# Altium integrated library WE-MAPI.intlib: 85 symbols
Pins are listed as number, name and electrical type; pins without a type are passive.

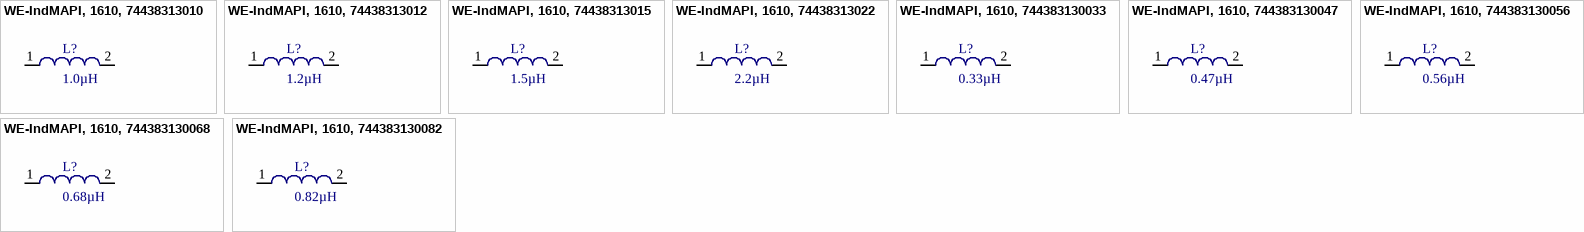
[diagram p0: symbols WE-IndMAPI, 1610, 74438313010 to WE-IndMAPI, 1610, 744383130082]

## WE-IndMAPI, 1610, 74438313010
designator L?, comment 1.0µH
SMD Power Inductor WE-IndMAPI, L=1.0µH; partNo: 74438313010; Manufacturer: Würth Elektronik eiSos GmbH; Inductance: 1.0µH; ComponentLink1Description: Manufacturer; ComponentLink1URL: http://www.we-online.de; Created by: Christin Zierenner; Created Date: Oct-2014; ComponentLink2Description: Datasheet; ComponentLink2URL: http://katalog.we-online.de/kataloge/eisos/media/pdf/74438313010.pdf
footprint WE-MAPI 1610 (SMD Inductor, 2-Leads, Body 1.6x 1.6mm,IPC Medium Density)
pins: 1, 2

## WE-IndMAPI, 1610, 74438313012
designator L?, comment 1.2µH
SMD Power Inductor WE-IndMAPI, L=1.2µH; partNo: 74438313012; Manufacturer: Würth Elektronik eiSos GmbH; Inductance: 1.2µH; ComponentLink1Description: Manufacturer; ComponentLink1URL: http://www.we-online.de; Created by: Christin Zierenner; Created Date: Oct-2014; ComponentLink2Description: Datasheet; ComponentLink2URL: http://katalog.we-online.de/kataloge/eisos/media/pdf/74438313012.pdf
footprint WE-MAPI 1610 (SMD Inductor, 2-Leads, Body 1.6x 1.6mm,IPC Medium Density)
pins: 1, 2

## WE-IndMAPI, 1610, 74438313015
designator L?, comment 1.5µH
SMD Power Inductor WE-IndMAPI, L=1.5µH; partNo: 74438313015; Manufacturer: Würth Elektronik eiSos GmbH; Inductance: 1.5µH; ComponentLink1Description: Manufacturer; ComponentLink1URL: http://www.we-online.de; Created by: Christin Zierenner; Created Date: Oct-2014; ComponentLink2Description: Datasheet; ComponentLink2URL: http://katalog.we-online.de/kataloge/eisos/media/pdf/74438313015.pdf
footprint WE-MAPI 1610 (SMD Inductor, 2-Leads, Body 1.6x 1.6mm,IPC Medium Density)
pins: 1, 2

## WE-IndMAPI, 1610, 74438313022
designator L?, comment 2.2µH
SMD Power Inductor WE-IndMAPI, L=2.2µH; partNo: 74438313022; Manufacturer: Würth Elektronik eiSos GmbH; Inductance: 2.2µH; ComponentLink1Description: Manufacturer; ComponentLink1URL: http://www.we-online.de; Created by: Christin Zierenner; Created Date: Oct-2014; ComponentLink2Description: Datasheet; ComponentLink2URL: http://katalog.we-online.de/kataloge/eisos/media/pdf/74438313022.pdf
footprint WE-MAPI 1610 (SMD Inductor, 2-Leads, Body 1.6x 1.6mm,IPC Medium Density)
pins: 1, 2

## WE-IndMAPI, 1610, 744383130033
designator L?, comment 0.33µH
SMD Power Inductor WE-IndMAPI, L=0.33µH; partNo: 744383130033; Manufacturer: Würth Elektronik eiSos GmbH; Inductance: 0.33µH; ComponentLink1Description: Manufacturer; ComponentLink1URL: http://www.we-online.de; Created by: Christin Zierenner; Created Date: Oct-2014; ComponentLink2Description: Datasheet; ComponentLink2URL: http://katalog.we-online.de/kataloge/eisos/media/pdf/744383130033.pdf
footprint WE-MAPI 1610 (SMD Inductor, 2-Leads, Body 1.6x 1.6mm,IPC Medium Density)
pins: 1, 2

## WE-IndMAPI, 1610, 744383130047
designator L?, comment 0.47µH
SMD Power Inductor WE-IndMAPI, L=0.47µH; partNo: 744383130047; Manufacturer: Würth Elektronik eiSos GmbH; Inductance: 0.47µH; ComponentLink1Description: Manufacturer; ComponentLink1URL: http://www.we-online.de; Created by: Christin Zierenner; Created Date: Oct-2014; ComponentLink2Description: Datasheet; ComponentLink2URL: http://katalog.we-online.de/kataloge/eisos/media/pdf/744383130047.pdf
footprint WE-MAPI 1610 (SMD Inductor, 2-Leads, Body 1.6x 1.6mm,IPC Medium Density)
pins: 1, 2

## WE-IndMAPI, 1610, 744383130056
designator L?, comment 0.56µH
SMD Power Inductor WE-IndMAPI, L=0.56µH; partNo: 744383130056; Manufacturer: Würth Elektronik eiSos GmbH; Inductance: 0.56µH; ComponentLink1Description: Manufacturer; ComponentLink1URL: http://www.we-online.de; Created by: Christin Zierenner; Created Date: Oct-2014; ComponentLink2Description: Datasheet; ComponentLink2URL: http://katalog.we-online.de/kataloge/eisos/media/pdf/744383130056.pdf
footprint WE-MAPI 1610 (SMD Inductor, 2-Leads, Body 1.6x 1.6mm,IPC Medium Density)
pins: 1, 2

## WE-IndMAPI, 1610, 744383130068
designator L?, comment 0.68µH
SMD Power Inductor WE-IndMAPI, L=0.68µH; partNo: 744383130068; Manufacturer: Würth Elektronik eiSos GmbH; Inductance: 0.68µH; ComponentLink1Description: Manufacturer; ComponentLink1URL: http://www.we-online.de; Created by: Christin Zierenner; Created Date: Oct-2014; ComponentLink2Description: Datasheet; ComponentLink2URL: http://katalog.we-online.de/kataloge/eisos/media/pdf/744383130068.pdf
footprint WE-MAPI 1610 (SMD Inductor, 2-Leads, Body 1.6x 1.6mm,IPC Medium Density)
pins: 1, 2

## WE-IndMAPI, 1610, 744383130082
designator L?, comment 0.82µH
SMD Power Inductor WE-IndMAPI, L=0.82µH; partNo: 744383130082; Manufacturer: Würth Elektronik eiSos GmbH; Inductance: 0.82µH; ComponentLink1Description: Manufacturer; ComponentLink1URL: http://www.we-online.de; Created by: Christin Zierenner; Created Date: Oct-2014; ComponentLink2Description: Datasheet; ComponentLink2URL: http://katalog.we-online.de/kataloge/eisos/media/pdf/744383130082.pdf
footprint WE-MAPI 1610 (SMD Inductor, 2-Leads, Body 1.6x 1.6mm,IPC Medium Density)
pins: 1, 2


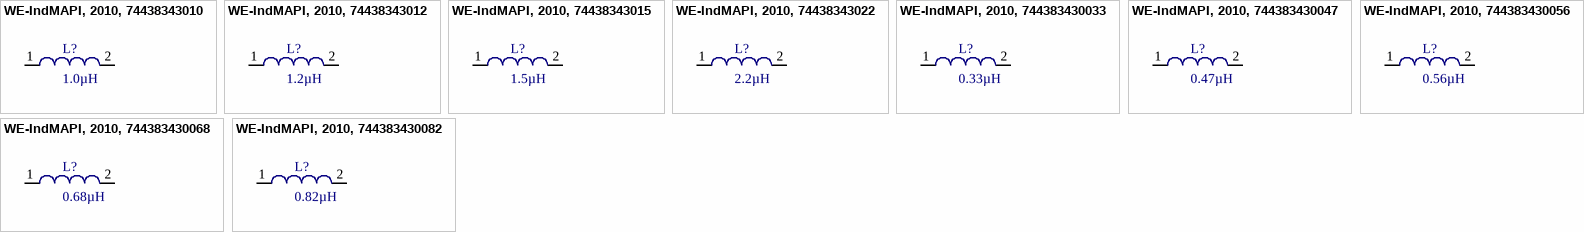
[diagram p1: symbols WE-IndMAPI, 2010, 74438343010 to WE-IndMAPI, 2010, 744383430082]

## WE-IndMAPI, 2010, 74438343010
designator L?, comment 1.0µH
SMD Power Inductor WE-IndMAPI, L=1.0µH; partNo: 74438343010; Manufacturer: Würth Elektronik eiSos GmbH; Inductance: 1.0µH; ComponentLink1Description: Manufacturer; ComponentLink1URL: http://www.we-online.de; Created by: Christin Zierenner; Created Date: Oct-2014; ComponentLink2Description: Datasheet; ComponentLink2URL: http://katalog.we-online.de/kataloge/eisos/media/pdf/74438343010.pdf
footprint WE-MAPI 2010 (SMD Inductor, 2-Leads, Body 2.5x 1.6mm,IPC Medium Density)
pins: 1, 2

## WE-IndMAPI, 2010, 74438343012
designator L?, comment 1.2µH
SMD Power Inductor WE-IndMAPI, L=1.2µH; partNo: 74438343012; Manufacturer: Würth Elektronik eiSos GmbH; Inductance: 1.2µH; ComponentLink1Description: Manufacturer; ComponentLink1URL: http://www.we-online.de; Created by: Christin Zierenner; Created Date: Oct-2014; ComponentLink2Description: Datasheet; ComponentLink2URL: http://katalog.we-online.de/kataloge/eisos/media/pdf/74438343012.pdf
footprint WE-MAPI 2010 (SMD Inductor, 2-Leads, Body 2.5x 1.6mm,IPC Medium Density)
pins: 1, 2

## WE-IndMAPI, 2010, 74438343015
designator L?, comment 1.5µH
SMD Power Inductor WE-IndMAPI, L=1.5µH; partNo: 74438343015; Manufacturer: Würth Elektronik eiSos GmbH; Inductance: 1.5µH; ComponentLink1Description: Manufacturer; ComponentLink1URL: http://www.we-online.de; Created by: Christin Zierenner; Created Date: Oct-2014; ComponentLink2Description: Datasheet; ComponentLink2URL: http://katalog.we-online.de/kataloge/eisos/media/pdf/74438343015.pdf
footprint WE-MAPI 2010 (SMD Inductor, 2-Leads, Body 2.5x 1.6mm,IPC Medium Density)
pins: 1, 2

## WE-IndMAPI, 2010, 74438343022
designator L?, comment 2.2µH
SMD Power Inductor WE-IndMAPI, L=2.2µH; partNo: 74438343022; Manufacturer: Würth Elektronik eiSos GmbH; Inductance: 2.2µH; ComponentLink1Description: Manufacturer; ComponentLink1URL: http://www.we-online.de; Created by: Christin Zierenner; Created Date: Oct-2014; ComponentLink2Description: Datasheet; ComponentLink2URL: http://katalog.we-online.de/kataloge/eisos/media/pdf/74438343022.pdf
footprint WE-MAPI 2010 (SMD Inductor, 2-Leads, Body 2.5x 1.6mm,IPC Medium Density)
pins: 1, 2

## WE-IndMAPI, 2010, 744383430033
designator L?, comment 0.33µH
SMD Power Inductor WE-IndMAPI, L=0.33µH; partNo: 744383430033; Manufacturer: Würth Elektronik eiSos GmbH; Inductance: 0.33µH; ComponentLink1Description: Manufacturer; ComponentLink1URL: http://www.we-online.de; Created by: Christin Zierenner; Created Date: Oct-2014; ComponentLink2Description: Datasheet; ComponentLink2URL: http://katalog.we-online.de/kataloge/eisos/media/pdf/744383430033.pdf
footprint WE-MAPI 2010 (SMD Inductor, 2-Leads, Body 2.5x 1.6mm,IPC Medium Density)
pins: 1, 2

## WE-IndMAPI, 2010, 744383430047
designator L?, comment 0.47µH
SMD Power Inductor WE-IndMAPI, L=0.47µH; partNo: 744383430047; Manufacturer: Würth Elektronik eiSos GmbH; Inductance: 0.47µH; ComponentLink1Description: Manufacturer; ComponentLink1URL: http://www.we-online.de; Created by: Christin Zierenner; Created Date: Oct-2014; ComponentLink2Description: Datasheet; ComponentLink2URL: http://katalog.we-online.de/kataloge/eisos/media/pdf/744383430047.pdf
footprint WE-MAPI 2010 (SMD Inductor, 2-Leads, Body 2.5x 1.6mm,IPC Medium Density)
pins: 1, 2

## WE-IndMAPI, 2010, 744383430056
designator L?, comment 0.56µH
SMD Power Inductor WE-IndMAPI, L=0.56µH; partNo: 744383430056; Manufacturer: Würth Elektronik eiSos GmbH; Inductance: 0.56µH; ComponentLink1Description: Manufacturer; ComponentLink1URL: http://www.we-online.de; Created by: Christin Zierenner; Created Date: Oct-2014; ComponentLink2Description: Datasheet; ComponentLink2URL: http://katalog.we-online.de/kataloge/eisos/media/pdf/744383430056.pdf
footprint WE-MAPI 2010 (SMD Inductor, 2-Leads, Body 2.5x 1.6mm,IPC Medium Density)
pins: 1, 2

## WE-IndMAPI, 2010, 744383430068
designator L?, comment 0.68µH
SMD Power Inductor WE-IndMAPI, L=0.68µH; partNo: 744383430068; Manufacturer: Würth Elektronik eiSos GmbH; Inductance: 0.68µH; ComponentLink1Description: Manufacturer; ComponentLink1URL: http://www.we-online.de; Created by: Christin Zierenner; Created Date: Oct-2014; ComponentLink2Description: Datasheet; ComponentLink2URL: http://katalog.we-online.de/kataloge/eisos/media/pdf/744383430068.pdf
footprint WE-MAPI 2010 (SMD Inductor, 2-Leads, Body 2.5x 1.6mm,IPC Medium Density)
pins: 1, 2

## WE-IndMAPI, 2010, 744383430082
designator L?, comment 0.82µH
SMD Power Inductor WE-IndMAPI, L=0.82µH; partNo: 744383430082; Manufacturer: Würth Elektronik eiSos GmbH; Inductance: 0.82µH; ComponentLink1Description: Manufacturer; ComponentLink1URL: http://www.we-online.de; Created by: Christin Zierenner; Created Date: Oct-2014; ComponentLink2Description: Datasheet; ComponentLink2URL: http://katalog.we-online.de/kataloge/eisos/media/pdf/744383430082.pdf
footprint WE-MAPI 2010 (SMD Inductor, 2-Leads, Body 2.5x 1.6mm,IPC Medium Density)
pins: 1, 2


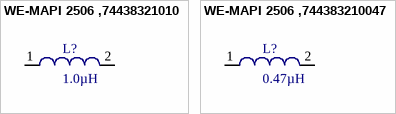
[diagram p2: symbols WE-MAPI 2506 ,74438321010 to WE-MAPI 2506 ,744383210047]

## WE-MAPI 2506 ,74438321010
designator L?, comment 1.0µH
Power Multilayer Inductor WE-MAPI, L=1.0µH; partNo: 74438321010; Manufacturer: Würth Elektronik eiSos GmbH; Inductance: 1.0µH; ComponentLink1Description: Manufacturer; ComponentLink1URL: http://www.we-online.de; Created by: Otto Christin; Created Date: Nov 2013; ComponentLink2Description: Datasheet; ComponentLink2URL: http://katalog.we-online.de/kataloge/eisos/media/pdf/74438321010.pdf
footprint WE-MAPI 2506 (Chip Inductor, 2-Leads, Body 2.5x2.0mm, IPC Medium Density)
pins: 1, 2

## WE-MAPI 2506 ,744383210047
designator L?, comment 0.47µH
Power Multilayer Inductor WE-MAPI, L=0.47µH; partNo: 744383210047; Manufacturer: Würth Elektronik eiSos GmbH; Inductance: 0.47µH; ComponentLink1Description: Manufacturer; ComponentLink1URL: http://www.we-online.de; Created by: Otto Christin; Created Date: Nov 2013; ComponentLink2Description: Datasheet; ComponentLink2URL: http://katalog.we-online.de/kataloge/eisos/media/pdf/744383210047.pdf
footprint WE-MAPI 2506 (Chip Inductor, 2-Leads, Body 2.5x2.0mm, IPC Medium Density)
pins: 1, 2


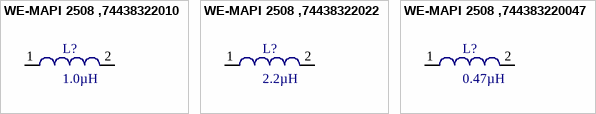
[diagram p3: symbols WE-MAPI 2508 ,74438322010 to WE-MAPI 2508 ,744383220047]

## WE-MAPI 2508 ,74438322010
designator L?, comment 1.0µH
Power Multilayer Inductor WE-MAPI, L=1.0µH; partNo: 74438322010; Manufacturer: Würth Elektronik eiSos GmbH; Inductance: 1.0µH; ComponentLink1Description: Manufacturer; ComponentLink1URL: http://www.we-online.de; Created by: Otto Christin; Created Date: Nov 2013; ComponentLink2Description: Datasheet; ComponentLink2URL: http://katalog.we-online.de/kataloge/eisos/media/pdf/74438322010.pdf
footprint WE-MAPI 2508 (Chip Inductor, 2-Leads, Body 2.5x2.0mm, IPC Medium Density)
pins: 1, 2

## WE-MAPI 2508 ,74438322022
designator L?, comment 2.2µH
Power Multilayer Inductor WE-MAPI, L=2.2µH; partNo: 74438322022; Manufacturer: Würth Elektronik eiSos GmbH; Inductance: 2.2µH; ComponentLink1Description: Manufacturer; ComponentLink1URL: http://www.we-online.de; Created by: Otto Christin; Created Date: Nov 2013; ComponentLink2Description: Datasheet; ComponentLink2URL: http://katalog.we-online.de/kataloge/eisos/media/pdf/74438322022.pdf
footprint WE-MAPI 2508 (Chip Inductor, 2-Leads, Body 2.5x2.0mm, IPC Medium Density)
pins: 1, 2

## WE-MAPI 2508 ,744383220047
designator L?, comment 0.47µH
Power Multilayer Inductor WE-MAPI, L=0.47µH; partNo: 744383220047; Manufacturer: Würth Elektronik eiSos GmbH; Inductance: 0.47µH; ComponentLink1Description: Manufacturer; ComponentLink1URL: http://www.we-online.de; Created by: Otto Christin; Created Date: Nov 2013; ComponentLink2Description: Datasheet; ComponentLink2URL: http://katalog.we-online.de/kataloge/eisos/media/pdf/744383220047.pdf
footprint WE-MAPI 2508 (Chip Inductor, 2-Leads, Body 2.5x2.0mm, IPC Medium Density)
pins: 1, 2


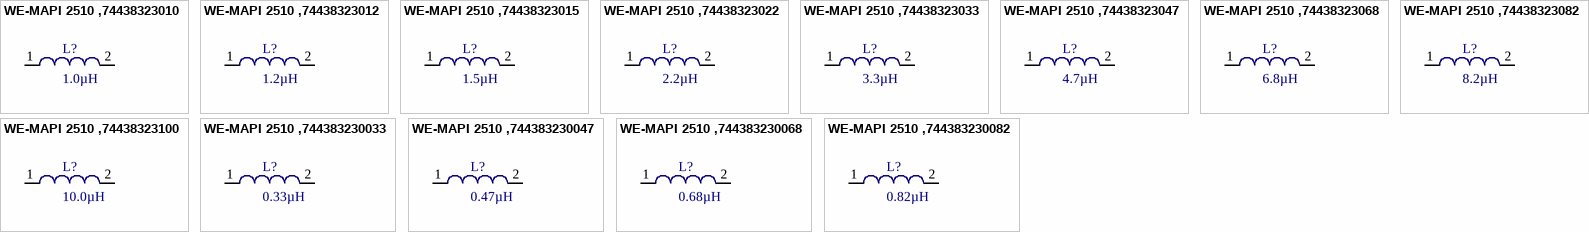
[diagram p4: symbols WE-MAPI 2510 ,74438323010 to WE-MAPI 2510 ,744383230082]

## WE-MAPI 2510 ,74438323010
designator L?, comment 1.0µH
Power Multilayer Inductor WE-MAPI, L=1.0µH; partNo: 74438323010; Manufacturer: Würth Elektronik eiSos GmbH; Inductance: 1.0µH; ComponentLink1Description: Manufacturer; ComponentLink1URL: http://www.we-online.de; Created by: Otto Christin; Created Date: Nov 2013; ComponentLink2Description: Datasheet; ComponentLink2URL: http://katalog.we-online.de/kataloge/eisos/media/pdf/74438323010.pdf
footprint WE-MAPI 2510 (Chip Inductor, 2-Leads, Body 2.5x2.0mm, IPC Medium Density)
pins: 1, 2

## WE-MAPI 2510 ,74438323012
designator L?, comment 1.2µH
Power Multilayer Inductor WE-MAPI, L=1.2µH; partNo: 74438323012; Manufacturer: Würth Elektronik eiSos GmbH; Inductance: 1.2µH; ComponentLink1Description: Manufacturer; ComponentLink1URL: http://www.we-online.de; Created by: Otto Christin; Created Date: Nov 2013; ComponentLink2Description: Datasheet; ComponentLink2URL: http://katalog.we-online.de/kataloge/eisos/media/pdf/74438323012.pdf
footprint WE-MAPI 2510 (Chip Inductor, 2-Leads, Body 2.5x2.0mm, IPC Medium Density)
pins: 1, 2

## WE-MAPI 2510 ,74438323015
designator L?, comment 1.5µH
Power Multilayer Inductor WE-MAPI, L=1.5µH; partNo: 74438323015; Manufacturer: Würth Elektronik eiSos GmbH; Inductance: 1.5µH; ComponentLink1Description: Manufacturer; ComponentLink1URL: http://www.we-online.de; Created by: Otto Christin; Created Date: Nov 2013; ComponentLink2Description: Datasheet; ComponentLink2URL: http://katalog.we-online.de/kataloge/eisos/media/pdf/74438323015.pdf
footprint WE-MAPI 2510 (Chip Inductor, 2-Leads, Body 2.5x2.0mm, IPC Medium Density)
pins: 1, 2

## WE-MAPI 2510 ,74438323022
designator L?, comment 2.2µH
Power Multilayer Inductor WE-MAPI, L=2.2µH; partNo: 74438323022; Manufacturer: Würth Elektronik eiSos GmbH; Inductance: 2.2µH; ComponentLink1Description: Manufacturer; ComponentLink1URL: http://www.we-online.de; Created by: Otto Christin; Created Date: Nov 2013; ComponentLink2Description: Datasheet; ComponentLink2URL: http://katalog.we-online.de/kataloge/eisos/media/pdf/74438323022.pdf
footprint WE-MAPI 2510 (Chip Inductor, 2-Leads, Body 2.5x2.0mm, IPC Medium Density)
pins: 1, 2

## WE-MAPI 2510 ,74438323033
designator L?, comment 3.3µH
Power Multilayer Inductor WE-MAPI, L=3.3µH; partNo: 74438323033; Manufacturer: Würth Elektronik eiSos GmbH; Inductance: 3.3µH; ComponentLink1Description: Manufacturer; ComponentLink1URL: http://www.we-online.de; Created by: Otto Christin; Created Date: Nov 2013; ComponentLink2Description: Datasheet; ComponentLink2URL: http://katalog.we-online.de/kataloge/eisos/media/pdf/74438323033.pdf
footprint WE-MAPI 2510 (Chip Inductor, 2-Leads, Body 2.5x2.0mm, IPC Medium Density)
pins: 1, 2

## WE-MAPI 2510 ,74438323047
designator L?, comment 4.7µH
Power Multilayer Inductor WE-MAPI, L=4.7µH; partNo: 74438323047; Manufacturer: Würth Elektronik eiSos GmbH; Inductance: 4.7µH; ComponentLink1Description: Manufacturer; ComponentLink1URL: http://www.we-online.de; Created by: Otto Christin; Created Date: Nov 2013; ComponentLink2Description: Datasheet; ComponentLink2URL: http://katalog.we-online.de/kataloge/eisos/media/pdf/74438323047.pdf
footprint WE-MAPI 2510 (Chip Inductor, 2-Leads, Body 2.5x2.0mm, IPC Medium Density)
pins: 1, 2

## WE-MAPI 2510 ,74438323068
designator L?, comment 6.8µH
Power Multilayer Inductor WE-MAPI, L=6.8µH; partNo: 74438323068; Manufacturer: Würth Elektronik eiSos GmbH; Inductance: 6.8µH; ComponentLink1Description: Manufacturer; ComponentLink1URL: http://www.we-online.de; Created by: Otto Christin; Created Date: Nov 2013; ComponentLink2Description: Datasheet; ComponentLink2URL: http://katalog.we-online.de/kataloge/eisos/media/pdf/74438323068.pdf
footprint WE-MAPI 2510 (Chip Inductor, 2-Leads, Body 2.5x2.0mm, IPC Medium Density)
pins: 1, 2

## WE-MAPI 2510 ,74438323082
designator L?, comment 8.2µH
Power Multilayer Inductor WE-MAPI, L=8.2µH; partNo: 74438323082; Manufacturer: Würth Elektronik eiSos GmbH; Inductance: 8.2µH; ComponentLink1Description: Manufacturer; ComponentLink1URL: http://www.we-online.de; Created by: Otto Christin; Created Date: Nov 2013; ComponentLink2Description: Datasheet; ComponentLink2URL: http://katalog.we-online.de/kataloge/eisos/media/pdf/74438323082.pdf
footprint WE-MAPI 2510 (Chip Inductor, 2-Leads, Body 2.5x2.0mm, IPC Medium Density)
pins: 1, 2

## WE-MAPI 2510 ,74438323100
designator L?, comment 10.0µH
Power Multilayer Inductor WE-MAPI, L=10.0µH; partNo: 74438323100; Manufacturer: Würth Elektronik eiSos GmbH; Inductance: 10.0µH; ComponentLink1Description: Manufacturer; ComponentLink1URL: http://www.we-online.de; Created by: Otto Christin; Created Date: Nov 2013; ComponentLink2Description: Datasheet; ComponentLink2URL: http://katalog.we-online.de/kataloge/eisos/media/pdf/74438323100.pdf
footprint WE-MAPI 2510 (Chip Inductor, 2-Leads, Body 2.5x2.0mm, IPC Medium Density)
pins: 1, 2

## WE-MAPI 2510 ,744383230033
designator L?, comment 0.33µH
Power Multilayer Inductor WE-MAPI, L=0.33µH; partNo: 744383230033; Manufacturer: Würth Elektronik eiSos GmbH; Inductance: 0.33µH; ComponentLink1Description: Manufacturer; ComponentLink1URL: http://www.we-online.de; Created by: Otto Christin; Created Date: Nov 2013; ComponentLink2Description: Datasheet; ComponentLink2URL: http://katalog.we-online.de/kataloge/eisos/media/pdf/744383230033.pdf
footprint WE-MAPI 2510 (Chip Inductor, 2-Leads, Body 2.5x2.0mm, IPC Medium Density)
pins: 1, 2

## WE-MAPI 2510 ,744383230047
designator L?, comment 0.47µH
Power Multilayer Inductor WE-MAPI, L=0.47µH; partNo: 744383230047; Manufacturer: Würth Elektronik eiSos GmbH; Inductance: 0.47µH; ComponentLink1Description: Manufacturer; ComponentLink1URL: http://www.we-online.de; Created by: Otto Christin; Created Date: Nov 2013; ComponentLink2Description: Datasheet; ComponentLink2URL: http://katalog.we-online.de/kataloge/eisos/media/pdf/744383230047.pdf
footprint WE-MAPI 2510 (Chip Inductor, 2-Leads, Body 2.5x2.0mm, IPC Medium Density)
pins: 1, 2

## WE-MAPI 2510 ,744383230068
designator L?, comment 0.68µH
Power Multilayer Inductor WE-MAPI, L=0.68µH; partNo: 744383230068; Manufacturer: Würth Elektronik eiSos GmbH; Inductance: 0.68µH; ComponentLink1Description: Manufacturer; ComponentLink1URL: http://www.we-online.de; Created by: Otto Christin; Created Date: Nov 2013; ComponentLink2Description: Datasheet; ComponentLink2URL: http://katalog.we-online.de/kataloge/eisos/media/pdf/744383230068.pdf
footprint WE-MAPI 2510 (Chip Inductor, 2-Leads, Body 2.5x2.0mm, IPC Medium Density)
pins: 1, 2

## WE-MAPI 2510 ,744383230082
designator L?, comment 0.82µH
Power Multilayer Inductor WE-MAPI, L=0.82µH; partNo: 744383230082; Manufacturer: Würth Elektronik eiSos GmbH; Inductance: 0.82µH; ComponentLink1Description: Manufacturer; ComponentLink1URL: http://www.we-online.de; Created by: Otto Christin; Created Date: Nov 2013; ComponentLink2Description: Datasheet; ComponentLink2URL: http://katalog.we-online.de/kataloge/eisos/media/pdf/744383230082.pdf
footprint WE-MAPI 2510 (Chip Inductor, 2-Leads, Body 2.5x2.0mm, IPC Medium Density)
pins: 1, 2


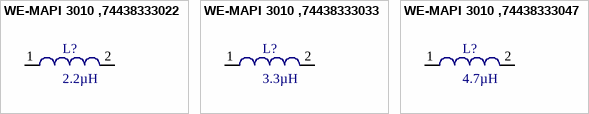
[diagram p5: symbols WE-MAPI 3010 ,74438333022 to WE-MAPI 3010 ,74438333047]

## WE-MAPI 3010 ,74438333022
designator L?, comment 2.2µH
Power Multilayer Inductor WE-MAPI, L=2.2µH; partNo: 74438333022; Manufacturer: Würth Elektronik eiSos GmbH; Inductance: 2.2µH; ComponentLink1Description: Manufacturer; ComponentLink1URL: http://www.we-online.de; Created by: Otto Christin; Created Date: Nov 2013; ComponentLink2Description: Datasheet; ComponentLink2URL: http://katalog.we-online.de/kataloge/eisos/media/pdf/74438333022.pdf
footprint WE-MAPI 3010 (Chip Inductor, 2-Leads, Body 3.0x3.0mm, IPC Medium Density)
pins: 1, 2

## WE-MAPI 3010 ,74438333033
designator L?, comment 3.3µH
Power Multilayer Inductor WE-MAPI, L=3.3µH; partNo: 74438333033; Manufacturer: Würth Elektronik eiSos GmbH; Inductance: 3.3µH; ComponentLink1Description: Manufacturer; ComponentLink1URL: http://www.we-online.de; Created by: Otto Christin; Created Date: Nov 2013; ComponentLink2Description: Datasheet; ComponentLink2URL: http://katalog.we-online.de/kataloge/eisos/media/pdf/74438333033.pdf
footprint WE-MAPI 3010 (Chip Inductor, 2-Leads, Body 3.0x3.0mm, IPC Medium Density)
pins: 1, 2

## WE-MAPI 3010 ,74438333047
designator L?, comment 4.7µH
Power Multilayer Inductor WE-MAPI, L=4.7µH; partNo: 74438333047; Manufacturer: Würth Elektronik eiSos GmbH; Inductance: 4.7µH; ComponentLink1Description: Manufacturer; ComponentLink1URL: http://www.we-online.de; Created by: Otto Christin; Created Date: Nov 2013; ComponentLink2Description: Datasheet; ComponentLink2URL: http://katalog.we-online.de/kataloge/eisos/media/pdf/74438333047.pdf
footprint WE-MAPI 3010 (Chip Inductor, 2-Leads, Body 3.0x3.0mm, IPC Medium Density)
pins: 1, 2


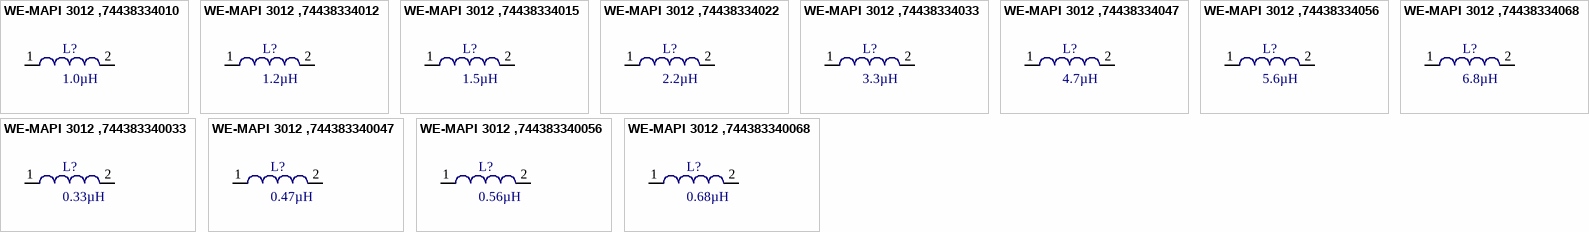
[diagram p6: symbols WE-MAPI 3012 ,74438334010 to WE-MAPI 3012 ,744383340068]

## WE-MAPI 3012 ,74438334010
designator L?, comment 1.0µH
Power Multilayer Inductor WE-MAPI, L=1.0µH; partNo: 74438334010; Manufacturer: Würth Elektronik eiSos GmbH; Inductance: 1.0µH; ComponentLink1Description: Manufacturer; ComponentLink1URL: http://www.we-online.de; Created by: Otto Christin; Created Date: Nov 2013; ComponentLink2Description: Datasheet; ComponentLink2URL: http://katalog.we-online.de/kataloge/eisos/media/pdf/74438334010.pdf
footprint WE-MAPI 3012 (Chip Inductor, 2-Leads, Body 3.0x3.0mm, IPC Medium Density)
pins: 1, 2

## WE-MAPI 3012 ,74438334012
designator L?, comment 1.2µH
Power Multilayer Inductor WE-MAPI, L=1.2µH; partNo: 74438334012; Manufacturer: Würth Elektronik eiSos GmbH; Inductance: 1.2µH; ComponentLink1Description: Manufacturer; ComponentLink1URL: http://www.we-online.de; Created by: Otto Christin; Created Date: Nov 2013; ComponentLink2Description: Datasheet; ComponentLink2URL: http://katalog.we-online.de/kataloge/eisos/media/pdf/74438334012.pdf
footprint WE-MAPI 3012 (Chip Inductor, 2-Leads, Body 3.0x3.0mm, IPC Medium Density)
pins: 1, 2

## WE-MAPI 3012 ,74438334015
designator L?, comment 1.5µH
Power Multilayer Inductor WE-MAPI, L=1.5µH; partNo: 74438334015; Manufacturer: Würth Elektronik eiSos GmbH; Inductance: 1.5µH; ComponentLink1Description: Manufacturer; ComponentLink1URL: http://www.we-online.de; Created by: Otto Christin; Created Date: Nov 2013; ComponentLink2Description: Datasheet; ComponentLink2URL: http://katalog.we-online.de/kataloge/eisos/media/pdf/74438334015.pdf
footprint WE-MAPI 3012 (Chip Inductor, 2-Leads, Body 3.0x3.0mm, IPC Medium Density)
pins: 1, 2

## WE-MAPI 3012 ,74438334022
designator L?, comment 2.2µH
Power Multilayer Inductor WE-MAPI, L=2.2µH; partNo: 74438334022; Manufacturer: Würth Elektronik eiSos GmbH; Inductance: 2.2µH; ComponentLink1Description: Manufacturer; ComponentLink1URL: http://www.we-online.de; Created by: Otto Christin; Created Date: Nov 2013; ComponentLink2Description: Datasheet; ComponentLink2URL: http://katalog.we-online.de/kataloge/eisos/media/pdf/74438334022.pdf
footprint WE-MAPI 3012 (Chip Inductor, 2-Leads, Body 3.0x3.0mm, IPC Medium Density)
pins: 1, 2

## WE-MAPI 3012 ,74438334033
designator L?, comment 3.3µH
Power Multilayer Inductor WE-MAPI, L=3.3µH; partNo: 74438334033; Manufacturer: Würth Elektronik eiSos GmbH; Inductance: 3.3µH; ComponentLink1Description: Manufacturer; ComponentLink1URL: http://www.we-online.de; Created by: Otto Christin; Created Date: Nov 2013; ComponentLink2Description: Datasheet; ComponentLink2URL: http://katalog.we-online.de/kataloge/eisos/media/pdf/74438334033.pdf
footprint WE-MAPI 3012 (Chip Inductor, 2-Leads, Body 3.0x3.0mm, IPC Medium Density)
pins: 1, 2

## WE-MAPI 3012 ,74438334047
designator L?, comment 4.7µH
Power Multilayer Inductor WE-MAPI, L=4.7µH; partNo: 74438334047; Manufacturer: Würth Elektronik eiSos GmbH; Inductance: 4.7µH; ComponentLink1Description: Manufacturer; ComponentLink1URL: http://www.we-online.de; Created by: Otto Christin; Created Date: Nov 2013; ComponentLink2Description: Datasheet; ComponentLink2URL: http://katalog.we-online.de/kataloge/eisos/media/pdf/74438334047.pdf
footprint WE-MAPI 3012 (Chip Inductor, 2-Leads, Body 3.0x3.0mm, IPC Medium Density)
pins: 1, 2

## WE-MAPI 3012 ,74438334056
designator L?, comment 5.6µH
Power Multilayer Inductor WE-MAPI, L=5.6µH; partNo: 74438334056; Manufacturer: Würth Elektronik eiSos GmbH; Inductance: 5.6µH; ComponentLink1Description: Manufacturer; ComponentLink1URL: http://www.we-online.de; Created by: Otto Christin; Created Date: Nov 2013; ComponentLink2Description: Datasheet; ComponentLink2URL: http://katalog.we-online.de/kataloge/eisos/media/pdf/74438334056.pdf
footprint WE-MAPI 3012 (Chip Inductor, 2-Leads, Body 3.0x3.0mm, IPC Medium Density)
pins: 1, 2

## WE-MAPI 3012 ,74438334068
designator L?, comment 6.8µH
Power Multilayer Inductor WE-MAPI, L=6.8µH; partNo: 74438334068; Manufacturer: Würth Elektronik eiSos GmbH; Inductance: 6.8µH; ComponentLink1Description: Manufacturer; ComponentLink1URL: http://www.we-online.de; Created by: Otto Christin; Created Date: Nov 2013; ComponentLink2Description: Datasheet; ComponentLink2URL: http://katalog.we-online.de/kataloge/eisos/media/pdf/74438334068.pdf
footprint WE-MAPI 3012 (Chip Inductor, 2-Leads, Body 3.0x3.0mm, IPC Medium Density)
pins: 1, 2

## WE-MAPI 3012 ,744383340033
designator L?, comment 0.33µH
Power Multilayer Inductor WE-MAPI, L=0.33µH; partNo: 744383340033; Manufacturer: Würth Elektronik eiSos GmbH; Inductance: 0.33µH; ComponentLink1Description: Manufacturer; ComponentLink1URL: http://www.we-online.de; Created by: Otto Christin; Created Date: Nov 2013; ComponentLink2Description: Datasheet; ComponentLink2URL: http://katalog.we-online.de/kataloge/eisos/media/pdf/744383340033.pdf
footprint WE-MAPI 3012 (Chip Inductor, 2-Leads, Body 3.0x3.0mm, IPC Medium Density)
pins: 1, 2

## WE-MAPI 3012 ,744383340047
designator L?, comment 0.47µH
Power Multilayer Inductor WE-MAPI, L=0.47µH; partNo: 744383340047; Manufacturer: Würth Elektronik eiSos GmbH; Inductance: 0.47µH; ComponentLink1Description: Manufacturer; ComponentLink1URL: http://www.we-online.de; Created by: Otto Christin; Created Date: Nov 2013; ComponentLink2Description: Datasheet; ComponentLink2URL: http://katalog.we-online.de/kataloge/eisos/media/pdf/744383340047.pdf
footprint WE-MAPI 3012 (Chip Inductor, 2-Leads, Body 3.0x3.0mm, IPC Medium Density)
pins: 1, 2

## WE-MAPI 3012 ,744383340056
designator L?, comment 0.56µH
Power Multilayer Inductor WE-MAPI, L=0.56µH; partNo: 744383340056; Manufacturer: Würth Elektronik eiSos GmbH; Inductance: 0.56µH; ComponentLink1Description: Manufacturer; ComponentLink1URL: http://www.we-online.de; Created by: Otto Christin; Created Date: Nov 2013; ComponentLink2Description: Datasheet; ComponentLink2URL: http://katalog.we-online.de/kataloge/eisos/media/pdf/744383340056.pdf
footprint WE-MAPI 3012 (Chip Inductor, 2-Leads, Body 3.0x3.0mm, IPC Medium Density)
pins: 1, 2

## WE-MAPI 3012 ,744383340068
designator L?, comment 0.68µH
Power Multilayer Inductor WE-MAPI, L=0.68µH; partNo: 744383340068; Manufacturer: Würth Elektronik eiSos GmbH; Inductance: 0.68µH; ComponentLink1Description: Manufacturer; ComponentLink1URL: http://www.we-online.de; Created by: Otto Christin; Created Date: Nov 2013; ComponentLink2Description: Datasheet; ComponentLink2URL: http://katalog.we-online.de/kataloge/eisos/media/pdf/744383340068.pdf
footprint WE-MAPI 3012 (Chip Inductor, 2-Leads, Body 3.0x3.0mm, IPC Medium Density)
pins: 1, 2


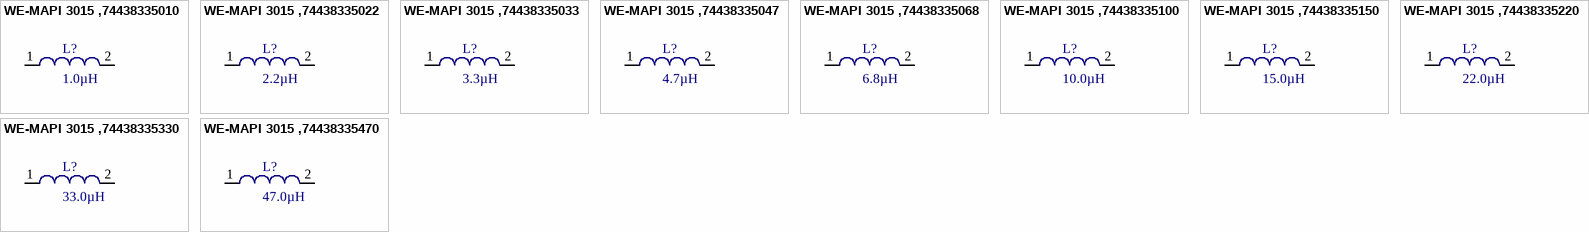
[diagram p7: symbols WE-MAPI 3015 ,74438335010 to WE-MAPI 3015 ,74438335470]

## WE-MAPI 3015 ,74438335010
designator L?, comment 1.0µH
Power Multilayer Inductor WE-MAPI, L=1.0µH; partNo: 74438335010; Manufacturer: Würth Elektronik eiSos GmbH; Inductance: 1.0µH; ComponentLink1Description: Manufacturer; ComponentLink1URL: http://www.we-online.de; Created by: Otto Christin; Created Date: Nov 2013; ComponentLink2Description: Datasheet; ComponentLink2URL: http://katalog.we-online.de/kataloge/eisos/media/pdf/74438335010.pdf
footprint WE-MAPI 3015 (Chip Inductor, 2-Leads, Body 3.0x3.0mm, IPC Medium Density)
pins: 1, 2

## WE-MAPI 3015 ,74438335022
designator L?, comment 2.2µH
Power Multilayer Inductor WE-MAPI, L=2.2µH; partNo: 74438335022; Manufacturer: Würth Elektronik eiSos GmbH; Inductance: 2.2µH; ComponentLink1Description: Manufacturer; ComponentLink1URL: http://www.we-online.de; Created by: Otto Christin; Created Date: Nov 2013; ComponentLink2Description: Datasheet; ComponentLink2URL: http://katalog.we-online.de/kataloge/eisos/media/pdf/74438335022.pdf
footprint WE-MAPI 3015 (Chip Inductor, 2-Leads, Body 3.0x3.0mm, IPC Medium Density)
pins: 1, 2

## WE-MAPI 3015 ,74438335033
designator L?, comment 3.3µH
Power Multilayer Inductor WE-MAPI, L=3.3µH; partNo: 74438335033; Manufacturer: Würth Elektronik eiSos GmbH; Inductance: 3.3µH; ComponentLink1Description: Manufacturer; ComponentLink1URL: http://www.we-online.de; Created by: Otto Christin; Created Date: Nov 2013; ComponentLink2Description: Datasheet; ComponentLink2URL: http://katalog.we-online.de/kataloge/eisos/media/pdf/74438335033.pdf
footprint WE-MAPI 3015 (Chip Inductor, 2-Leads, Body 3.0x3.0mm, IPC Medium Density)
pins: 1, 2

## WE-MAPI 3015 ,74438335047
designator L?, comment 4.7µH
Power Multilayer Inductor WE-MAPI, L=4.7µH; partNo: 74438335047; Manufacturer: Würth Elektronik eiSos GmbH; Inductance: 4.7µH; ComponentLink1Description: Manufacturer; ComponentLink1URL: http://www.we-online.de; Created by: Otto Christin; Created Date: Nov 2013; ComponentLink2Description: Datasheet; ComponentLink2URL: http://katalog.we-online.de/kataloge/eisos/media/pdf/74438335047.pdf
footprint WE-MAPI 3015 (Chip Inductor, 2-Leads, Body 3.0x3.0mm, IPC Medium Density)
pins: 1, 2

## WE-MAPI 3015 ,74438335068
designator L?, comment 6.8µH
Power Multilayer Inductor WE-MAPI, L=6.8µH; partNo: 74438335068; Manufacturer: Würth Elektronik eiSos GmbH; Inductance: 6.8µH; ComponentLink1Description: Manufacturer; ComponentLink1URL: http://www.we-online.de; Created by: Otto Christin; Created Date: Nov 2013; ComponentLink2Description: Datasheet; ComponentLink2URL: http://katalog.we-online.de/kataloge/eisos/media/pdf/74438335068.pdf
footprint SMD 3015 (Chip Inductor, 2-Leads, Body 3.0x3.0mm, IPC Medium Density)
pins: 1, 2

## WE-MAPI 3015 ,74438335100
designator L?, comment 10.0µH
Power Multilayer Inductor WE-MAPI, L=10.0µH; partNo: 74438335100; Manufacturer: Würth Elektronik eiSos GmbH; Inductance: 10.0µH; ComponentLink1Description: Manufacturer; ComponentLink1URL: http://www.we-online.de; Created by: Otto Christin; Created Date: Nov 2013; ComponentLink2Description: Datasheet; ComponentLink2URL: http://katalog.we-online.de/kataloge/eisos/media/pdf/74438335100.pdf
footprint WE-MAPI 3015 (Chip Inductor, 2-Leads, Body 3.0x3.0mm, IPC Medium Density)
pins: 1, 2

## WE-MAPI 3015 ,74438335150
designator L?, comment 15.0µH
Power Multilayer Inductor WE-MAPI, L=15.0µH; partNo: 74438335150; Manufacturer: Würth Elektronik eiSos GmbH; Inductance: 15.0µH; ComponentLink1Description: Manufacturer; ComponentLink1URL: http://www.we-online.de; Created by: Otto Christin; Created Date: Nov 2013; ComponentLink2Description: Datasheet; ComponentLink2URL: http://katalog.we-online.de/kataloge/eisos/media/pdf/74438335150.pdf
footprint WE-MAPI 3015 (Chip Inductor, 2-Leads, Body 3.0x3.0mm, IPC Medium Density)
pins: 1, 2

## WE-MAPI 3015 ,74438335220
designator L?, comment 22.0µH
Power Multilayer Inductor WE-MAPI, L=22.0µH; partNo: 74438335220; Manufacturer: Würth Elektronik eiSos GmbH; Inductance: 22.0µH; ComponentLink1Description: Manufacturer; ComponentLink1URL: http://www.we-online.de; Created by: Otto Christin; Created Date: Nov 2013; ComponentLink2Description: Datasheet; ComponentLink2URL: http://katalog.we-online.de/kataloge/eisos/media/pdf/74438335220.pdf
footprint WE-MAPI 3015 (Chip Inductor, 2-Leads, Body 3.0x3.0mm, IPC Medium Density)
pins: 1, 2

## WE-MAPI 3015 ,74438335330
designator L?, comment 33.0µH
Power Multilayer Inductor WE-MAPI, L=33.0µH; partNo: 74438335330; Manufacturer: Würth Elektronik eiSos GmbH; Inductance: 33.0µH; ComponentLink1Description: Manufacturer; ComponentLink1URL: http://www.we-online.de; Created by: Otto Christin; Created Date: Nov 2013; ComponentLink2Description: Datasheet; ComponentLink2URL: http://katalog.we-online.de/kataloge/eisos/media/pdf/74438335330.pdf
footprint WE-MAPI 3015 (Chip Inductor, 2-Leads, Body 3.0x3.0mm, IPC Medium Density)
pins: 1, 2

## WE-MAPI 3015 ,74438335470
designator L?, comment 47.0µH
Power Multilayer Inductor WE-MAPI, L=47.0µH; partNo: 74438335470; Manufacturer: Würth Elektronik eiSos GmbH; Inductance: 47.0µH; ComponentLink1Description: Manufacturer; ComponentLink1URL: http://www.we-online.de; Created by: Otto Christin; Created Date: Nov 2013; ComponentLink2Description: Datasheet; ComponentLink2URL: http://katalog.we-online.de/kataloge/eisos/media/pdf/74438335470.pdf
footprint WE-MAPI 3015 (Chip Inductor, 2-Leads, Body 3.0x3.0mm, IPC Medium Density)
pins: 1, 2


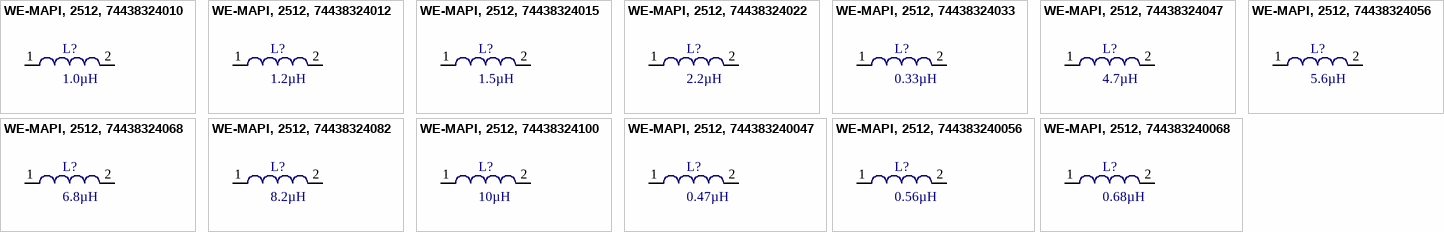
[diagram p8: symbols WE-MAPI, 2512, 74438324010 to WE-MAPI, 2512, 744383240068]

## WE-MAPI, 2512, 74438324010
designator L?, comment 1.0µH
SMD Power Inductor WE-MAPI, L=1.0µH; partNo: 74438324010; Manufacturer: Würth Elektronik eiSos GmbH; Inductance: 1.0µH; ComponentLink1Description: Manufacturer; ComponentLink1URL: http://www.we-online.de; Created by: Christin Zierenner; Created Date: Oct-2014; ComponentLink2Description: Datasheet; ComponentLink2URL: http://katalog.we-online.de/kataloge/eisos/media/pdf/74438324010.pdf
footprint WE-MAPI 2512 (SMD Inductor, 2-Leads, Body 2.5x 2mm,IPC Medium Density)
pins: 1, 2

## WE-MAPI, 2512, 74438324012
designator L?, comment 1.2µH
SMD Power Inductor WE-MAPI, L=1.2µH; partNo: 74438324012; Manufacturer: Würth Elektronik eiSos GmbH; Inductance: 1.2µH; ComponentLink1Description: Manufacturer; ComponentLink1URL: http://www.we-online.de; Created by: Christin Zierenner; Created Date: Oct-2014; ComponentLink2Description: Datasheet; ComponentLink2URL: http://katalog.we-online.de/kataloge/eisos/media/pdf/74438324012.pdf
footprint WE-MAPI 2512 (SMD Inductor, 2-Leads, Body 2.5x 2mm,IPC Medium Density)
pins: 1, 2

## WE-MAPI, 2512, 74438324015
designator L?, comment 1.5µH
SMD Power Inductor WE-MAPI, L=01.5µH; partNo: 74438324015; Manufacturer: Würth Elektronik eiSos GmbH; Inductance: 1.5µH; ComponentLink1Description: Manufacturer; ComponentLink1URL: http://www.we-online.de; Created by: Christin Zierenner; Created Date: Oct-2014; ComponentLink2Description: Datasheet; ComponentLink2URL: http://katalog.we-online.de/kataloge/eisos/media/pdf/74438324015.pdf
footprint WE-MAPI 2512 (SMD Inductor, 2-Leads, Body 2.5x 2mm,IPC Medium Density)
pins: 1, 2

## WE-MAPI, 2512, 74438324022
designator L?, comment 2.2µH
SMD Power Inductor WE-MAPI, L=2.2µH; partNo: 74438324022; Manufacturer: Würth Elektronik eiSos GmbH; Inductance: 2.2µH; ComponentLink1Description: Manufacturer; ComponentLink1URL: http://www.we-online.de; Created by: Christin Zierenner; Created Date: Oct-2014; ComponentLink2Description: Datasheet; ComponentLink2URL: http://katalog.we-online.de/kataloge/eisos/media/pdf/74438324022.pdf
footprint WE-MAPI 2512 (SMD Inductor, 2-Leads, Body 2.5x 2mm,IPC Medium Density)
pins: 1, 2

## WE-MAPI, 2512, 74438324033
designator L?, comment 0.33µH
SMD Power Inductor WE-MAPI, L=0.33µH; partNo: 74438324033; Manufacturer: Würth Elektronik eiSos GmbH; Inductance: 0.33µH; ComponentLink1Description: Manufacturer; ComponentLink1URL: http://www.we-online.de; Created by: Christin Zierenner; Created Date: Oct-2014; ComponentLink2Description: Datasheet; ComponentLink2URL: http://katalog.we-online.de/kataloge/eisos/media/pdf/74438324033.pdf
footprint WE-MAPI 2512 (SMD Inductor, 2-Leads, Body 2.5x 2mm,IPC Medium Density)
pins: 1, 2

## WE-MAPI, 2512, 74438324047
designator L?, comment 4.7µH
SMD Power Inductor WE-MAPI, L=4.7µH; partNo: 74438324047; Manufacturer: Würth Elektronik eiSos GmbH; Inductance: 4.7µH; ComponentLink1Description: Manufacturer; ComponentLink1URL: http://www.we-online.de; Created by: Christin Zierenner; Created Date: Oct-2014; ComponentLink2Description: Datasheet; ComponentLink2URL: http://katalog.we-online.de/kataloge/eisos/media/pdf/74438324047.pdf
footprint WE-MAPI 2512 (SMD Inductor, 2-Leads, Body 2.5x 2mm,IPC Medium Density)
pins: 1, 2

## WE-MAPI, 2512, 74438324056
designator L?, comment 5.6µH
SMD Power Inductor WE-MAPI, L=5.6µH; partNo: 74438324056; Manufacturer: Würth Elektronik eiSos GmbH; Inductance: 5.6µH; ComponentLink1Description: Manufacturer; ComponentLink1URL: http://www.we-online.de; Created by: Christin Zierenner; Created Date: Oct-2014; ComponentLink2Description: Datasheet; ComponentLink2URL: http://katalog.we-online.de/kataloge/eisos/media/pdf/74438324056.pdf
footprint WE-MAPI 2512 (SMD Inductor, 2-Leads, Body 2.5x 2mm,IPC Medium Density)
pins: 1, 2

## WE-MAPI, 2512, 74438324068
designator L?, comment 6.8µH
SMD Power Inductor WE-MAPI, L=6.8µH; partNo: 74438324068; Manufacturer: Würth Elektronik eiSos GmbH; Inductance: 6.8µH; ComponentLink1Description: Manufacturer; ComponentLink1URL: http://www.we-online.de; Created by: Christin Zierenner; Created Date: Oct-2014; ComponentLink2Description: Datasheet; ComponentLink2URL: http://katalog.we-online.de/kataloge/eisos/media/pdf/74438324068.pdf
footprint WE-MAPI 2512 (SMD Inductor, 2-Leads, Body 2.5x 2mm,IPC Medium Density)
pins: 1, 2

## WE-MAPI, 2512, 74438324082
designator L?, comment 8.2µH
SMD Power Inductor WE-MAPI, L=8.2µH; partNo: 74438324082; Manufacturer: Würth Elektronik eiSos GmbH; Inductance: 8.2µH; ComponentLink1Description: Manufacturer; ComponentLink1URL: http://www.we-online.de; Created by: Christin Zierenner; Created Date: Oct-2014; ComponentLink2Description: Datasheet; ComponentLink2URL: http://katalog.we-online.de/kataloge/eisos/media/pdf/74438324082.pdf
footprint WE-MAPI 2512 (SMD Inductor, 2-Leads, Body 2.5x 2mm,IPC Medium Density)
pins: 1, 2

## WE-MAPI, 2512, 74438324100
designator L?, comment 10µH
SMD Power Inductor WE-MAPI, L=10µH; partNo: 74438324100; Manufacturer: Würth Elektronik eiSos GmbH; Inductance: 10µH; ComponentLink1Description: Manufacturer; ComponentLink1URL: http://www.we-online.de; Created by: Christin Zierenner; Created Date: Oct-2014; ComponentLink2Description: Datasheet; ComponentLink2URL: http://katalog.we-online.de/kataloge/eisos/media/pdf/74438324100.pdf
footprint WE-MAPI 2512 (SMD Inductor, 2-Leads, Body 2.5x 2mm,IPC Medium Density)
pins: 1, 2

## WE-MAPI, 2512, 744383240047
designator L?, comment 0.47µH
SMD Power Inductor WE-MAPI, L=0.47µH; partNo: 744383240047; Manufacturer: Würth Elektronik eiSos GmbH; Inductance: 0.47µH; ComponentLink1Description: Manufacturer; ComponentLink1URL: http://www.we-online.de; Created by: Christin Zierenner; Created Date: Oct-2014; ComponentLink2Description: Datasheet; ComponentLink2URL: http://katalog.we-online.de/kataloge/eisos/media/pdf/744383240047.pdf
footprint WE-MAPI 2512 (SMD Inductor, 2-Leads, Body 2.5x 2mm,IPC Medium Density)
pins: 1, 2

## WE-MAPI, 2512, 744383240056
designator L?, comment 0.56µH
SMD Power Inductor WE-MAPI, L=0.56µH; partNo: 744383240056; Manufacturer: Würth Elektronik eiSos GmbH; Inductance: 0.56µH; ComponentLink1Description: Manufacturer; ComponentLink1URL: http://www.we-online.de; Created by: Christin Zierenner; Created Date: Oct-2014; ComponentLink2Description: Datasheet; ComponentLink2URL: http://katalog.we-online.de/kataloge/eisos/media/pdf/744383240056.pdf
footprint WE-MAPI 2512 (SMD Inductor, 2-Leads, Body 2.5x 2mm,IPC Medium Density)
pins: 1, 2

## WE-MAPI, 2512, 744383240068
designator L?, comment 0.68µH
SMD Power Inductor WE-MAPI, L=0.68µH; partNo: 744383240068; Manufacturer: Würth Elektronik eiSos GmbH; Inductance: 0.68µH; ComponentLink1Description: Manufacturer; ComponentLink1URL: http://www.we-online.de; Created by: Christin Zierenner; Created Date: Oct-2014; ComponentLink2Description: Datasheet; ComponentLink2URL: http://katalog.we-online.de/kataloge/eisos/media/pdf/744383240068.pdf
footprint WE-MAPI 2512 (SMD Inductor, 2-Leads, Body 2.5x 2mm,IPC Medium Density)
pins: 1, 2


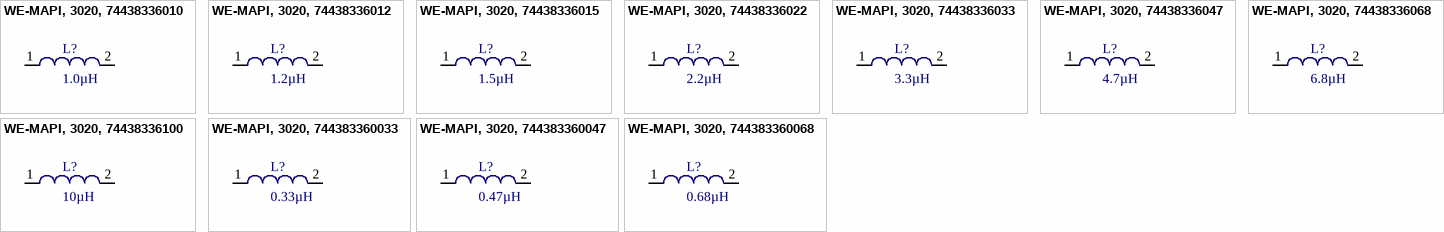
[diagram p9: symbols WE-MAPI, 3020, 74438336010 to WE-MAPI, 3020, 744383360068]

## WE-MAPI, 3020, 74438336010
designator L?, comment 1.0µH
SMD Power Inductor WE-MAPI, L=1.0µH; partNo: 74438336010; Manufacturer: Würth Elektronik eiSos GmbH; Inductance: 1.0µH; ComponentLink1Description: Manufacturer; ComponentLink1URL: http://www.we-online.de; Created by: Christin Zierenner; Created Date: Oct-2014; ComponentLink2Description: Datasheet; ComponentLink2URL: http://katalog.we-online.de/kataloge/eisos/media/pdf/7443833601pdf
footprint WE-MAPI 3020 (SMD Inductor, 2-Leads, Body 3x 3mm,IPC Medium Density)
pins: 1, 2

## WE-MAPI, 3020, 74438336012
designator L?, comment 1.2µH
SMD Power Inductor WE-MAPI, L=1.2µH; partNo: 74438336012; Manufacturer: Würth Elektronik eiSos GmbH; Inductance: 1.2µH; ComponentLink1Description: Manufacturer; ComponentLink1URL: http://www.we-online.de; Created by: Christin Zierenner; Created Date: Oct-2014; ComponentLink2Description: Datasheet; ComponentLink2URL: http://katalog.we-online.de/kataloge/eisos/media/pdf/74438336012.pdf
footprint WE-MAPI 3020 (SMD Inductor, 2-Leads, Body 3x 3mm,IPC Medium Density)
pins: 1, 2

## WE-MAPI, 3020, 74438336015
designator L?, comment 1.5µH
SMD Power Inductor WE-MAPI, L=1.5µH; partNo: 74438336015; Manufacturer: Würth Elektronik eiSos GmbH; Inductance: 1.5µH; ComponentLink1Description: Manufacturer; ComponentLink1URL: http://www.we-online.de; Created by: Christin Zierenner; Created Date: Oct-2014; ComponentLink2Description: Datasheet; ComponentLink2URL: http://katalog.we-online.de/kataloge/eisos/media/pdf/74438336015.pdf
footprint WE-MAPI 3020 (SMD Inductor, 2-Leads, Body 3x 3mm,IPC Medium Density)
pins: 1, 2

## WE-MAPI, 3020, 74438336022
designator L?, comment 2.2µH
SMD Power Inductor WE-MAPI, L=2.2µH; partNo: 74438336022; Manufacturer: Würth Elektronik eiSos GmbH; Inductance: 2.2µH; ComponentLink1Description: Manufacturer; ComponentLink1URL: http://www.we-online.de; Created by: Christin Zierenner; Created Date: Oct-2014; ComponentLink2Description: Datasheet; ComponentLink2URL: http://katalog.we-online.de/kataloge/eisos/media/pdf/74438336022.pdf
footprint WE-MAPI 3020 (SMD Inductor, 2-Leads, Body 3x 3mm,IPC Medium Density)
pins: 1, 2

## WE-MAPI, 3020, 74438336033
designator L?, comment 3.3µH
SMD Power Inductor WE-MAPI, L=3.3µH; partNo: 74438336033; Manufacturer: Würth Elektronik eiSos GmbH; Inductance: 3.3µH; ComponentLink1Description: Manufacturer; ComponentLink1URL: http://www.we-online.de; Created by: Christin Zierenner; Created Date: Oct-2014; ComponentLink2Description: Datasheet; ComponentLink2URL: http://katalog.we-online.de/kataloge/eisos/media/pdf/74438336033.pdf
footprint WE-MAPI 3020 (SMD Inductor, 2-Leads, Body 3x 3mm,IPC Medium Density)
pins: 1, 2

## WE-MAPI, 3020, 74438336047
designator L?, comment 4.7µH
SMD Power Inductor WE-MAPI, L=4.7µH; partNo: 74438336047; Manufacturer: Würth Elektronik eiSos GmbH; Inductance: 4.7µH; ComponentLink1Description: Manufacturer; ComponentLink1URL: http://www.we-online.de; Created by: Christin Zierenner; Created Date: Oct-2014; ComponentLink2Description: Datasheet; ComponentLink2URL: http://katalog.we-online.de/kataloge/eisos/media/pdf/74438336047.pdf
footprint WE-MAPI 3020 (SMD Inductor, 2-Leads, Body 3x 3mm,IPC Medium Density)
pins: 1, 2

## WE-MAPI, 3020, 74438336068
designator L?, comment 6.8µH
SMD Power Inductor WE-MAPI, L=6.8µH; partNo: 74438336068; Manufacturer: Würth Elektronik eiSos GmbH; Inductance: 6.8µH; ComponentLink1Description: Manufacturer; ComponentLink1URL: http://www.we-online.de; Created by: Christin Zierenner; Created Date: Oct-2014; ComponentLink2Description: Datasheet; ComponentLink2URL: http://katalog.we-online.de/kataloge/eisos/media/pdf/74438336068.pdf
footprint WE-MAPI 3020 (SMD Inductor, 2-Leads, Body 3x 3mm,IPC Medium Density)
pins: 1, 2

## WE-MAPI, 3020, 74438336100
designator L?, comment 10µH
SMD Power Inductor WE-MAPI, L=10µH; partNo: 74438336100; Manufacturer: Würth Elektronik eiSos GmbH; Inductance: 10µH; ComponentLink1Description: Manufacturer; ComponentLink1URL: http://www.we-online.de; Created by: Christin Zierenner; Created Date: Oct-2014; ComponentLink2Description: Datasheet; ComponentLink2URL: http://katalog.we-online.de/kataloge/eisos/media/pdf/74438336100.pdf
footprint WE-MAPI 3020 (SMD Inductor, 2-Leads, Body 3x 3mm,IPC Medium Density)
pins: 1, 2

## WE-MAPI, 3020, 744383360033
designator L?, comment 0.33µH
SMD Power Inductor WE-MAPI, L=0.33µH; partNo: 744383360033; Manufacturer: Würth Elektronik eiSos GmbH; Inductance: 0.33µH; ComponentLink1Description: Manufacturer; ComponentLink1URL: http://www.we-online.de; Created by: Christin Zierenner; Created Date: Oct-2014; ComponentLink2Description: Datasheet; ComponentLink2URL: http://katalog.we-online.de/kataloge/eisos/media/pdf/744383360033.pdf
footprint WE-MAPI 3020 (SMD Inductor, 2-Leads, Body 3x 3mm,IPC Medium Density)
pins: 1, 2

## WE-MAPI, 3020, 744383360047
designator L?, comment 0.47µH
SMD Power Inductor WE-MAPI, L=0.47µH; partNo: 744383360047; Manufacturer: Würth Elektronik eiSos GmbH; Inductance: 0.47µH; ComponentLink1Description: Manufacturer; ComponentLink1URL: http://www.we-online.de; Created by: Christin Zierenner; Created Date: Oct-2014; ComponentLink2Description: Datasheet; ComponentLink2URL: http://katalog.we-online.de/kataloge/eisos/media/pdf/744383360047.pdf
footprint WE-MAPI 3020 (SMD Inductor, 2-Leads, Body 3x 3mm,IPC Medium Density)
pins: 1, 2

## WE-MAPI, 3020, 744383360068
designator L?, comment 0.68µH
SMD Power Inductor WE-MAPI, L=0.68µH; partNo: 744383360068; Manufacturer: Würth Elektronik eiSos GmbH; Inductance: 0.68µH; ComponentLink1Description: Manufacturer; ComponentLink1URL: http://www.we-online.de; Created by: Christin Zierenner; Created Date: Oct-2014; ComponentLink2Description: Datasheet; ComponentLink2URL: http://katalog.we-online.de/kataloge/eisos/media/pdf/744383360068.pdf
footprint WE-MAPI 3020 (SMD Inductor, 2-Leads, Body 3x 3mm,IPC Medium Density)
pins: 1, 2